# Altium footprint library lib_ti.PcbLib: 37 footprints (part 1 of 3)
Each footprint in its own frame and in the unit in brackets; x right, y up, seen from the top. Pads: shape width x height; smd on the part's side, far side on the other; paste and mask are expansions set on the pad; w line width, h text height; cw(c..) or ccw(c..) is an arc to the next point about the centre after c.
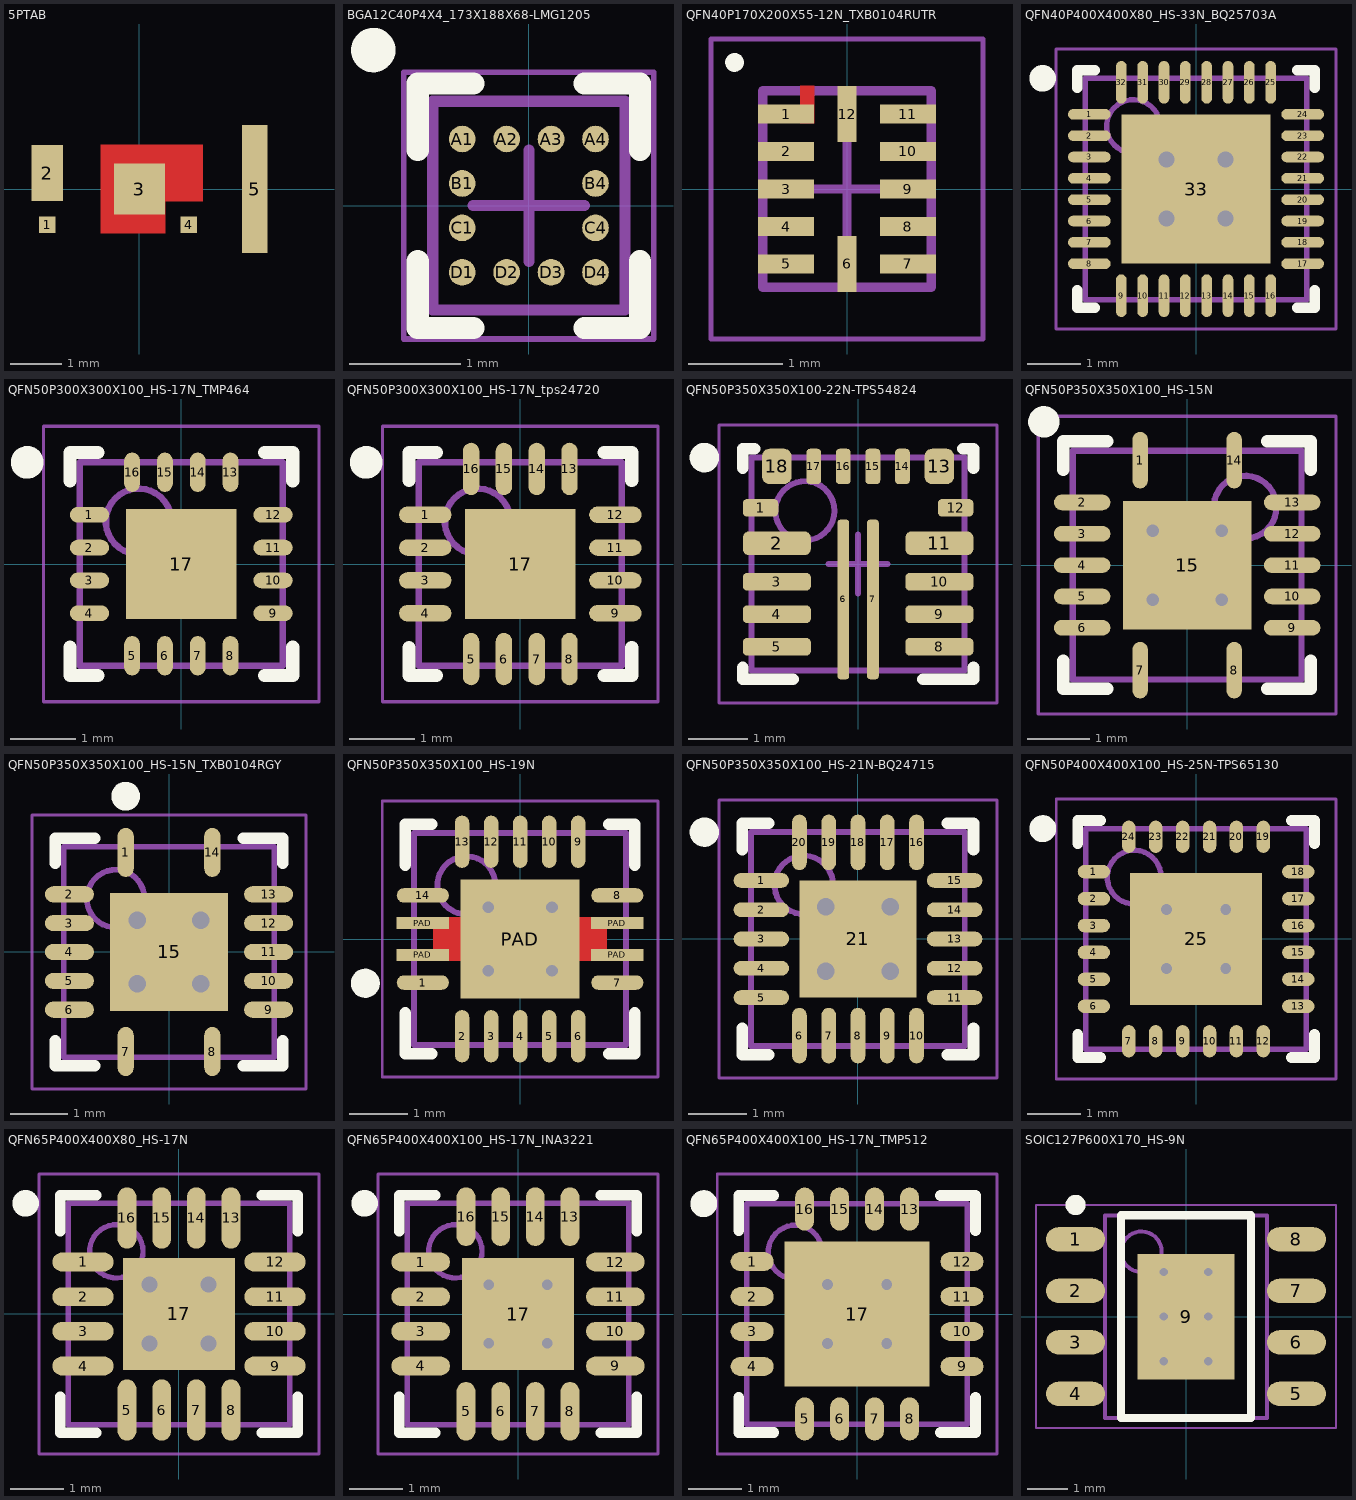
[diagram p0: the footprints below, top view; thin cyan lines are the x and y axes]

## 5PTAB [mm]
pads (5):
  rect 0.32x0.32 smd: 1(-1.8,-0.698) 4(0.96,-0.698)
  rect 0.616x1.096 smd: 2(-1.8,0.31)
  rect 1x1 smd: 3(0,0)
  rect 0.5x2.5 smd: 5(2.25,0)
Top Layer:
  region: -0.758,0.858 -0.758,-0.858 0.5,-0.858 0.5,-0.238 1.238,-0.238 1.238,0.858
3D body "Part1.STEP": height 0.48, standoff 0, extent -2.5,-1.25 2.5,1.25

## BGA12C40P4X4_173X188X68-LMG1205 [mm] "BGA, 12-Leads, Body 1,73x1,88mmx0,68mm, Pitch 0,40mm"
height 0.68
pads (12):
  round 0.24 smd: A1(-0.6,0.6) A2(-0.2,0.6) A3(0.2,0.6) A4(0.6,0.6) B1(-0.6,0.2) B4(0.6,0.2) C1(-0.6,-0.2) C4(0.6,-0.2) D1(-0.6,-0.6) D2(-0.2,-0.6) D3(0.2,-0.6) D4(0.6,-0.6)
Top Overlay:
  circle w0.2: c-1.4,1.4 r0.1
  lines w0.2: -1,-0.5 -1,-1.1 -0.5,-1.1 ; -1,0.5 -1,1.1 -0.5,1.1 ; 0.5,-1.1 1,-1.1 1,-0.5 ; 0.5,1.1 1,1.1 1,0.5
Mechanical 13:
  lines w0.1: -0.865,-0.94 0.865,-0.94 0.865,0.94 -0.865,0.94 -0.865,-0.94
Mechanical 15:
  lines w0.05: -1.125,-1.2 1.125,-1.2 1.125,1.2 -1.125,1.2 -1.125,-1.2
  lines w0.1: -0.5,0 0.5,0 ; 0,-0.5 0,0.5
3D body "BGA12C40P4X4_173X188X68.step": height 0.65, standoff -0.03, extent -0.865,-0.94 0.865,0.94

## QFN40P170X200X55-12N_TXB0104RUTR [mm] "QFN, 12-Leads, Body 1.70x2.00mm, Pitch 0.40mm, IPC Medium Density"
height 0.55
pads (12):
  rect 0.6x0.2 smd: 1(-0.65,0.8) 2(-0.65,0.4) 3(-0.65,0) 4(-0.65,-0.4) 5(-0.65,-0.8) 7(0.65,-0.8) 8(0.65,-0.4) 9(0.65,0) 10(0.65,0.4) 11(0.65,0.8)
  rect 0.2x0.6 smd: 6(0,-0.8) 12(0,0.8)
Top Layer:
  region: -0.35,0.7 -0.35,1.1 -0.5,1.1 -0.5,0.7
Top Overlay:
  circle w0.1: c-1.2,1.35 r0.05
Mechanical 13:
  lines w0.1: -0.9,-1.05 -0.9,1.05 0.9,1.05 0.9,-1.05 -0.9,-1.05
Mechanical 15:
  lines w0.05: -1.45,-1.6 -1.45,1.6 1.45,1.6 1.45,-1.6 -1.45,-1.6
  lines w0.1: -0.5,0 0.5,0 ; 0,-0.5 0,0.5
3D body "QFN40P170X200X55-12N_TXB0104RUTR.step": height 0.55, standoff 0, extent -0.901,-1.051 0.901,1.051

## QFN40P400X400X80_HS-33N_BQ25703A [mm] "QFN, 32-Leads, Body 4.00x4.00mm, Pitch 0.40mm, Thermal Pad 2.80x2.80mm, IPC Medium Density"
height 0.8
pads (33):
  oval 0.8x0.2 smd: 1(-2,1.4) 2(-2,1) 3(-2,0.6) 4(-2,0.2) 5(-2,-0.2) 6(-2,-0.6) 7(-2,-1) 8(-2,-1.4) 17(2,-1.4) 18(2,-1) 19(2,-0.6) 20(2,-0.2) 21(2,0.2) 22(2,0.6) 23(2,1) 24(2,1.4)
  oval 0.2x0.8 smd: 9(-1.4,-2) 10(-1,-2) 11(-0.6,-2) 12(-0.2,-2) 13(0.2,-2) 14(0.6,-2) 15(1,-2) 16(1.4,-2) 25(1.4,2) 26(1,2) 27(0.6,2) 28(0.2,2) 29(-0.2,2) 30(-0.6,2) 31(-1,2) 32(-1.4,2)
  rect 2.8x2.8 smd: 33(0,0)
via 0.55,-0.55 diameter 0.7 hole 0.3
via -0.55,-0.55 diameter 0.7 hole 0.3
via 0.55,0.55 diameter 0.7 hole 0.3
via -0.55,0.55 diameter 0.7 hole 0.3
Top Overlay:
  circle w0.25: c-2.875,2.075 r0.125
  lines w0.2: -2.225,-1.9 -2.225,-2.225 -1.9,-2.225 ; -2.225,1.9 -2.225,2.225 -1.9,2.225 ; 1.9,-2.225 2.225,-2.225 2.225,-1.9 ; 1.9,2.225 2.225,2.225 2.225,1.9
Mechanical 13:
  circle w0.1: c-1.175,1.175 r0.5
  lines w0.1: -2.075,-2.075 2.075,-2.075 2.075,2.075 -2.075,2.075 -2.075,-2.075
Mechanical 15:
  lines w0.05: -2.625,-2.625 2.625,-2.625 2.625,2.625 -2.625,2.625 -2.625,-2.625
  lines w0.1: -0.5,0 0.5,0 ; 0,-0.5 0,0.5
3D body "QFN40P400X400X80_HS-33N_BQ25703A.step": height 0.8, standoff 0, extent -2.076,-2.076 2.076,2.076

## QFN50P300X300X100_HS-17N_TMP464 [mm] "QFN, 16-Leads, Body 3.00x3.00mm, Pitch 0.50mm, Thermal Pad 1.68x1.68mm, IPC Medium Density"
height 1
pads (17):
  oval 0.6x0.24 smd: 1(-1.4,0.75) 2(-1.4,0.25) 3(-1.4,-0.25) 4(-1.4,-0.75) 9(1.4,-0.75) 10(1.4,-0.25) 11(1.4,0.25) 12(1.4,0.75)
  oval 0.24x0.6 smd: 5(-0.75,-1.4) 6(-0.25,-1.4) 7(0.25,-1.4) 8(0.75,-1.4) 13(0.75,1.4) 14(0.25,1.4) 15(-0.25,1.4) 16(-0.75,1.4)
  rect 1.68x1.68 smd: 17(0,0)
Top Overlay:
  circle w0.25: c-2.35,1.55 r0.125
  lines w0.2: -1.7,-1.27 -1.7,-1.7 -1.27,-1.7 ; -1.7,1.27 -1.7,1.7 -1.27,1.7 ; 1.27,-1.7 1.7,-1.7 1.7,-1.27 ; 1.27,1.7 1.7,1.7 1.7,1.27
Mechanical 13:
  circle w0.1: c-0.65,0.65 r0.5
  lines w0.1: -1.55,-1.55 1.55,-1.55 1.55,1.55 -1.55,1.55 -1.55,-1.55
Mechanical 15:
  lines w0.05: -2.1,-2.1 2.1,-2.1 2.1,2.1 -2.1,2.1 -2.1,-2.1
  lines w0.1: -0.5,0 0.5,0 ; 0,-0.5 0,0.5
3D body "QFN50P300X300X100_HS-17N_TMP464.step": height 1, standoff 0, extent -1.56,-1.56 1.56,1.56

## QFN50P300X300X100_HS-17N_tps24720 [mm] "QFN, 16-Leads, Body 3.00x3.00mm, Pitch 0.50mm, Thermal Pad 1.68x1.68mm, IPC Medium Density"
height 1
pads (17):
  oval 0.8x0.25 smd: 1(-1.45,0.75) 2(-1.45,0.25) 3(-1.45,-0.25) 4(-1.45,-0.75) 9(1.45,-0.75) 10(1.45,-0.25) 11(1.45,0.25) 12(1.45,0.75)
  oval 0.25x0.8 smd: 5(-0.75,-1.45) 6(-0.25,-1.45) 7(0.25,-1.45) 8(0.75,-1.45) 13(0.75,1.45) 14(0.25,1.45) 15(-0.25,1.45) 16(-0.75,1.45)
  rect 1.68x1.68 smd: 17(0,0)
Top Overlay:
  circle w0.25: c-2.35,1.55 r0.125
  lines w0.2: -1.7,-1.275 -1.7,-1.7 -1.275,-1.7 ; -1.7,1.275 -1.7,1.7 -1.275,1.7 ; 1.275,-1.7 1.7,-1.7 1.7,-1.275 ; 1.275,1.7 1.7,1.7 1.7,1.275
Mechanical 13:
  circle w0.1: c-0.65,0.65 r0.5
  lines w0.1: -1.55,-1.55 1.55,-1.55 1.55,1.55 -1.55,1.55 -1.55,-1.55
Mechanical 15:
  lines w0.05: -2.1,-2.1 2.1,-2.1 2.1,2.1 -2.1,2.1 -2.1,-2.1
  lines w0.1: -0.5,0 0.5,0 ; 0,-0.5 0,0.5
3D body "QFN50P300X300X100_HS-17N.step": height 1, standoff 0, extent -1.6,-1.6 1.6,1.6

## QFN50P350X350X100-22N-TPS54824 [mm] "QFN, 22-Leads, Body 3.50x3.50mm, Pitch 0.50mm/0.55mm, IPC Medium Density"
height 1
pads (18):
  rrect50% 0.6x0.3 smd: 1(-1.65,0.95) 12(1.65,0.95)
  rrect50% 1.15x0.4 smd: 2(-1.375,0.35) 11(1.375,0.35)
  rrect50% 1.15x0.3 smd: 3(-1.375,-0.3) 4(-1.375,-0.85) 5(-1.375,-1.4) 8(1.375,-1.4) 9(1.375,-0.85) 10(1.375,-0.3)
  rrect50% 0.2x2.7 smd: 6(-0.25,-0.6) 7(0.25,-0.6)
  rrect50% 0.5x0.6 smd: 13(1.375,1.65) 18(-1.375,1.65)
  rrect50% 0.25x0.6 smd: 14(0.75,1.65) 15(0.25,1.65) 16(-0.25,1.65) 17(-0.75,1.65)
Top Overlay:
  circle w0.25: c-2.6,1.8 r0.125
  lines w0.2: -1.95,-1.75 -1.95,-1.95 -1.1,-1.95 ; -1.95,1.625 -1.95,1.95 -1.75,1.95 ; 1.1,-1.95 1.95,-1.95 1.95,-1.75 ; 1.775,1.95 1.95,1.95 1.95,1.625
Mechanical 13:
  circle w0.1: c-0.9,0.9 r0.5
  lines w0.1: -1.8,-1.8 1.8,-1.8 1.8,1.8 -1.8,1.8 -1.8,-1.8
Mechanical 15:
  lines w0.05: -2.35,-2.35 2.35,-2.35 2.35,2.35 -2.35,2.35 -2.35,-2.35
  lines w0.1: -0.5,0 0.5,0 ; 0,-0.5 0,0.5
3D body "QFN50P350X350X100-22N.step": height 1, standoff 0, extent -1.801,-1.801 1.801,1.801

## QFN50P350X350X100_HS-15N [mm] "QFN, 14-Leads, Body 3.50x3.50mm, Pitch 0.50mm/1.50mm, Thermal Pad 2.05x2.05mm, IPC Medium Density"
height 1
pads (15):
  oval 0.25x0.9 smd: 1(-0.75,1.675) 7(-0.75,-1.675) 8(0.75,-1.675) 14(0.75,1.675)
  oval 0.9x0.25 smd: 2(-1.675,1) 3(-1.675,0.5) 4(-1.675,0) 5(-1.675,-0.5) 6(-1.675,-1) 9(1.675,-1) 10(1.675,-0.5) 11(1.675,0) 12(1.675,0.5) 13(1.675,1)
  rect 2.05x2.05 smd: 15(0,0)
via 0.55,0.55 diameter 0.5 hole 0.2
via 0.55,-0.55 diameter 0.5 hole 0.2
via -0.55,0.55 diameter 0.5 hole 0.2
via -0.55,-0.55 diameter 0.5 hole 0.2
Top Overlay:
  circle w0.25: c-2.286,2.286 r0.125
  lines w0.2: -1.975,-1.525 -1.975,-1.975 -1.275,-1.975 ; -1.975,1.525 -1.975,1.975 -1.275,1.975 ; 1.275,-1.975 1.975,-1.975 1.975,-1.525 ; 1.275,1.975 1.975,1.975 1.975,1.525
Mechanical 13:
  circle w0.1: c0.925,0.925 r0.5
  lines w0.1: -1.825,-1.825 1.825,-1.825 1.825,1.825 -1.825,1.825 -1.825,-1.825
Mechanical 15:
  lines w0.05: -2.375,-2.375 2.375,-2.375 2.375,2.375 -2.375,2.375 -2.375,-2.375
  lines w0.1: -0.5,0 0.5,0 ; 0,-0.5 0,0.5
3D body "QFN50P350X350X100_HS-15N.step": height 1, standoff 0, extent -1.905,-1.905 1.905,1.905

## QFN50P350X350X100_HS-15N_TXB0104RGY [mm] "QFN, 14-Leads, Body 3.50x3.50mm, Pitch 1.50mm/0.50mm, Thermal Pad 2.05x2.05mm, IPC Medium Density"
height 1
pads (15):
  oval 0.28x0.85 smd: 1(-0.75,1.725) 7(-0.75,-1.725) 8(0.75,-1.725) 14(0.75,1.725)
  oval 0.85x0.28 smd: 2(-1.725,1) 3(-1.725,0.5) 4(-1.725,0) 5(-1.725,-0.5) 6(-1.725,-1) 9(1.725,-1) 10(1.725,-0.5) 11(1.725,0) 12(1.725,0.5) 13(1.725,1)
  rect 2.05x2.05 smd: 15(0,0)
via -0.55,0.55 diameter 0.5 hole 0.3
via 0.55,0.55 diameter 0.5 hole 0.3
via -0.55,-0.55 diameter 0.5 hole 0.3
via 0.55,-0.55 diameter 0.5 hole 0.3
Top Overlay:
  circle w0.25: c-0.75,2.7 r0.125
  lines w0.2: -1.975,-1.54 -1.975,-1.975 -1.29,-1.975 ; -1.975,1.54 -1.975,1.975 -1.29,1.975 ; 1.29,-1.975 1.975,-1.975 1.975,-1.54 ; 1.29,1.975 1.975,1.975 1.975,1.54
Mechanical 13:
  circle w0.1: c-0.925,0.925 r0.5
  lines w0.1: -1.825,-1.825 -1.825,1.825 1.825,1.825 1.825,-1.825 -1.825,-1.825
Mechanical 15:
  lines w0.05: -2.375,-2.375 -2.375,2.375 2.375,2.375 2.375,-2.375 -2.375,-2.375
  lines w0.1: -0.5,0 0.5,0 ; 0,-0.5 0,0.5
3D body "QFN50P350X350X100_HS-15N_TXB0104RGY.step": height 1, standoff 0, extent -1.915,-1.915 1.915,1.915

## QFN50P350X350X100_HS-19N [mm] "QFN, 18-Leads, Body 3,50x3,50mm, Pitch 0,50mm, Thermal Pad 2,05x2,05mm, IPC Medium Density"
height 1
pads (19):
  oval 0.9x0.25 smd: 1(-1.675,-0.75) 7(1.675,-0.75) 8(1.675,0.75) 14(-1.675,0.75)
  oval 0.25x0.9 smd: 2(-1,-1.675) 3(-0.5,-1.675) 4(0,-1.675) 5(0.5,-1.675) 6(1,-1.675) 9(1,1.675) 10(0.5,1.675) 11(0,1.675) 12(-0.5,1.675) 13(-1,1.675)
  rect 0.9x0.2 smd: PAD(-1.675,-0.275) PAD(-1.675,0.275) PAD(1.675,-0.275) PAD(1.675,0.275)
  rect 2.05x2.05 smd: PAD(0,0)
via 0.55,-0.55 diameter 0.5 hole 0.2
via -0.55,-0.55 diameter 0.5 hole 0.2
via 0.55,0.55 diameter 0.5 hole 0.2
via -0.55,0.55 diameter 0.5 hole 0.2
Top Layer:
  rectangle: -1.5,-0.375 1.5,0.375
Top Overlay:
  circle w0.25: c-2.667,-0.762 r0.125
  lines w0.2: -1.975,-1.275 -1.975,-1.975 -1.525,-1.975 ; -1.975,1.275 -1.975,1.975 -1.525,1.975 ; 1.525,-1.975 1.975,-1.975 1.975,-1.275 ; 1.525,1.975 1.975,1.975 1.975,1.275
Mechanical 13:
  circle w0.1: c-0.925,0.925 r0.5
  lines w0.1: -1.825,-1.825 1.825,-1.825 1.825,1.825 -1.825,1.825 -1.825,-1.825
Mechanical 15:
  lines w0.05: -2.375,-2.375 2.375,-2.375 2.375,2.375 -2.375,2.375 -2.375,-2.375
  lines w0.1: -0.5,0 0.5,0 ; 0,-0.5 0,0.5
3D body "RHL0014A.stp": height 1, standoff 0, extent -1.75,-1.75 1.75,1.75

## QFN50P350X350X100_HS-21N-BQ24715 [mm] "QFN, 20-Leads, Body 3.50x3.50mm, Pitch 0.50mm, Thermal Pad 2.00x2.00mm, IPC Medium Density"
height 1
pads (21):
  oval 0.95x0.25 smd: 1(-1.65,1) 2(-1.65,0.5) 3(-1.65,0) 4(-1.65,-0.5) 5(-1.65,-1) 11(1.65,-1) 12(1.65,-0.5) 13(1.65,0) 14(1.65,0.5) 15(1.65,1)
  oval 0.25x0.95 smd: 6(-1,-1.65) 7(-0.5,-1.65) 8(0,-1.65) 9(0.5,-1.65) 10(1,-1.65) 16(1,1.65) 17(0.5,1.65) 18(0,1.65) 19(-0.5,1.65) 20(-1,1.65)
  rect 2x2 smd: 21(0,0)
via -0.55,0.55 diameter 0.6 hole 0.3
via 0.55,0.55 diameter 0.6 hole 0.3
via -0.55,-0.55 diameter 0.6 hole 0.3
via 0.55,-0.55 diameter 0.6 hole 0.3
Top Overlay:
  circle w0.25: c-2.625,1.825 r0.125
  lines w0.2: -1.975,-1.525 -1.975,-1.975 -1.525,-1.975 ; -1.975,1.525 -1.975,1.975 -1.525,1.975 ; 1.525,-1.975 1.975,-1.975 1.975,-1.525 ; 1.525,1.975 1.975,1.975 1.975,1.525
Mechanical 13:
  circle w0.1: c-0.925,0.925 r0.5
  lines w0.1: -1.825,-1.825 -1.825,1.825 1.825,1.825 1.825,-1.825 -1.825,-1.825
Mechanical 15:
  lines w0.05: -2.375,-2.375 -2.375,2.375 2.375,2.375 2.375,-2.375 -2.375,-2.375
  lines w0.1: -0.5,0 0.5,0 ; 0,-0.5 0,0.5
3D body "QFN50P350X350X100_HS-21N-BQ24715.step": height 1, standoff 0, extent -1.826,-1.826 1.826,1.826

## QFN50P400X400X100_HS-25N-TPS65130 [mm] "QFN, 24-Leads, Body 4,00x4,00mm, Pitch 0,50mm, Thermal Pad 2,45x2,45mm, IPC Medium Density"
height 1
pads (25):
  oval 0.6x0.25 smd: 1(-1.9,1.25) 2(-1.9,0.75) 3(-1.9,0.25) 4(-1.9,-0.25) 5(-1.9,-0.75) 6(-1.9,-1.25) 13(1.9,-1.25) 14(1.9,-0.75) 15(1.9,-0.25) 16(1.9,0.25) 17(1.9,0.75) 18(1.9,1.25)
  oval 0.25x0.6 smd: 7(-1.25,-1.9) 8(-0.75,-1.9) 9(-0.25,-1.9) 10(0.25,-1.9) 11(0.75,-1.9) 12(1.25,-1.9) 19(1.25,1.9) 20(0.75,1.9) 21(0.25,1.9) 22(-0.25,1.9) 23(-0.75,1.9) 24(-1.25,1.9)
  rect 2.45x2.45 smd: 25(0,0)
via -0.55,0.55 diameter 0.5 hole 0.2
via 0.55,0.55 diameter 0.5 hole 0.2
via -0.55,-0.55 diameter 0.5 hole 0.2
via 0.55,-0.55 diameter 0.5 hole 0.2
Top Overlay:
  circle w0.25: c-2.85,2.05 r0.125
  lines w0.2: -2.2,-1.775 -2.2,-2.2 -1.775,-2.2 ; -2.2,1.775 -2.2,2.2 -1.775,2.2 ; 1.775,-2.2 2.2,-2.2 2.2,-1.775 ; 1.775,2.2 2.2,2.2 2.2,1.775
Mechanical 13:
  circle w0.1: c-1.15,1.15 r0.5
  lines w0.1: -2.05,-2.05 -2.05,2.05 2.05,2.05 2.05,-2.05 -2.05,-2.05
Mechanical 15:
  lines w0.05: -2.6,-2.6 -2.6,2.6 2.6,2.6 2.6,-2.6 -2.6,-2.6
  lines w0.1: -0.5,0 0.5,0 ; 0,-0.5 0,0.5
3D body "QFN50P400X400X100_HS-25N-TPS65130.step": height 1, standoff 0, extent -2.051,-2.051 2.051,2.051

## QFN65P400X400X80_HS-17N [mm] "QFN, 16-Leads, Body 4,00x4,00mm, Pitch 0,65mm, Thermal Pad 2,10x2,10mm, IPC Medium Density"
height 0.8
pads (17):
  oval 1.15x0.35 smd: 1(-1.8,0.975) 2(-1.8,0.325) 3(-1.8,-0.325) 4(-1.8,-0.975) 9(1.8,-0.975) 10(1.8,-0.325) 11(1.8,0.325) 12(1.8,0.975)
  oval 0.35x1.15 smd: 5(-0.975,-1.8) 6(-0.325,-1.8) 7(0.325,-1.8) 8(0.975,-1.8) 13(0.975,1.8) 14(0.325,1.8) 15(-0.325,1.8) 16(-0.975,1.8)
  rect 2.1x2.1 smd: 17(0,0)
via 0.55,-0.55 diameter 0.6 hole 0.3
via -0.55,-0.55 diameter 0.6 hole 0.3
via 0.55,0.55 diameter 0.6 hole 0.3
via -0.55,0.55 diameter 0.6 hole 0.3
Top Overlay:
  circle w0.25: c-2.875,2.075 r0.125
  lines w0.2: -2.225,-1.55 -2.225,-2.225 -1.55,-2.225 ; -2.225,1.55 -2.225,2.225 -1.55,2.225 ; 1.55,-2.225 2.225,-2.225 2.225,-1.55 ; 1.55,2.225 2.225,2.225 2.225,1.55
Mechanical 13:
  circle w0.1: c-1.175,1.175 r0.5
  lines w0.1: -2.075,-2.075 2.075,-2.075 2.075,2.075 -2.075,2.075 -2.075,-2.075
Mechanical 15:
  lines w0.05: -2.625,-2.625 2.625,-2.625 2.625,2.625 -2.625,2.625 -2.625,-2.625
  lines w0.1: -0.5,0 0.5,0 ; 0,-0.5 0,0.5
3D body "QFN65P400X400X80_HS-17N.step": height 0.8, standoff 0, extent -2.076,-2.076 2.076,2.076

## QFN65P400X400X100_HS-17N_INA3221 [mm] "QFN, 16-Leads, Body 4.00x4.00mm, Pitch 0.65mm, Thermal Pad 2.10x2.10mm, IPC Medium Density"
height 1
pads (17):
  oval 1.1x0.35 smd: 1(-1.825,0.975) 2(-1.825,0.325) 3(-1.825,-0.325) 4(-1.825,-0.975) 9(1.825,-0.975) 10(1.825,-0.325) 11(1.825,0.325) 12(1.825,0.975)
  oval 0.35x1.1 smd: 5(-0.975,-1.825) 6(-0.325,-1.825) 7(0.325,-1.825) 8(0.975,-1.825) 13(0.975,1.825) 14(0.325,1.825) 15(-0.325,1.825) 16(-0.975,1.825)
  rect 2.1x2.1 smd: 17(0,0)
via 0.55,-0.55 diameter 0.5 hole 0.2
via -0.55,-0.55 diameter 0.5 hole 0.2
via 0.55,0.55 diameter 0.5 hole 0.2
via -0.55,0.55 diameter 0.5 hole 0.2
Top Overlay:
  circle w0.25: c-2.875,2.075 r0.125
  lines w0.2: -2.225,-1.55 -2.225,-2.225 -1.55,-2.225 ; -2.225,1.55 -2.225,2.225 -1.55,2.225 ; 1.55,-2.225 2.225,-2.225 2.225,-1.55 ; 1.55,2.225 2.225,2.225 2.225,1.55
Mechanical 13:
  circle w0.1: c-1.175,1.175 r0.5
  lines w0.1: -2.075,-2.075 2.075,-2.075 2.075,2.075 -2.075,2.075 -2.075,-2.075
Mechanical 15:
  lines w0.05: -2.625,-2.625 2.625,-2.625 2.625,2.625 -2.625,2.625 -2.625,-2.625
  lines w0.1: -0.5,0 0.5,0 ; 0,-0.5 0,0.5
3D body "QFN65P400X400X100_HS-17N_INA3221.step": height 1, standoff 0, extent -2.125,-2.125 2.125,2.125

## QFN65P400X400X100_HS-17N_TMP512 [mm] "QFN, 16-Leads, Body 4.00x4.00mm, Pitch 0.65mm, Thermal Pad 2.70x2.70mm, IPC Medium Density"
height 1
pads (17):
  oval 0.8x0.35 smd: 1(-1.95,0.975) 2(-1.95,0.325) 3(-1.95,-0.325) 4(-1.95,-0.975) 9(1.95,-0.975) 10(1.95,-0.325) 11(1.95,0.325) 12(1.95,0.975)
  oval 0.35x0.8 smd: 5(-0.975,-1.95) 6(-0.325,-1.95) 7(0.325,-1.95) 8(0.975,-1.95) 13(0.975,1.95) 14(0.325,1.95) 15(-0.325,1.95) 16(-0.975,1.95)
  rect 2.7x2.7 smd: 17(0,0)
via 0.55,-0.55 diameter 0.5 hole 0.2
via -0.55,-0.55 diameter 0.5 hole 0.2
via 0.55,0.55 diameter 0.5 hole 0.2
via -0.55,0.55 diameter 0.5 hole 0.2
Top Overlay:
  circle w0.25: c-2.85,2.05 r0.125
  lines w0.2: -2.2,-1.55 -2.2,-2.2 -1.55,-2.2 ; -2.2,1.55 -2.2,2.2 -1.55,2.2 ; 1.55,-2.2 2.2,-2.2 2.2,-1.55 ; 1.55,2.2 2.2,2.2 2.2,1.55
Mechanical 13:
  circle w0.1: c-1.15,1.15 r0.5
  lines w0.1: -2.05,-2.05 2.05,-2.05 2.05,2.05 -2.05,2.05 -2.05,-2.05
Mechanical 15:
  lines w0.05: -2.6,-2.6 2.6,-2.6 2.6,2.6 -2.6,2.6 -2.6,-2.6
  lines w0.1: -0.5,0 0.5,0 ; 0,-0.5 0,0.5
3D body "QFN65P400X400X100_HS-17N_TMP512.step": height 1, standoff 0, extent -2.051,-2.051 2.051,2.051

## SOIC127P600X170_HS-9N [mm] "SOIC, 8-Leads, Body 4,90x3,90mm, Pitch 1,27mm, Thermal Pad 3,10x2,40mm, IPC Medium Density"
height 1.7
pads (9):
  oval 1.45x0.6 smd: 1(-2.725,1.905) 2(-2.725,0.635) 3(-2.725,-0.635) 4(-2.725,-1.905) 5(2.725,-1.905) 6(2.725,-0.635) 7(2.725,0.635) 8(2.725,1.905)
  rect 2.4x3.1 smd: 9(0,0)
via 0.55,-1.1 diameter 0.5 hole 0.2
via -0.55,-1.1 diameter 0.5 hole 0.2
via 0.55,0 diameter 0.5 hole 0.2
via -0.55,0 diameter 0.5 hole 0.2
via 0.55,1.1 diameter 0.5 hole 0.2
via -0.55,1.1 diameter 0.5 hole 0.2
Top Overlay:
  circle w0.25: c-2.725,2.755 r0.125
  lines w0.2: -1.6,-2.5 1.6,-2.5 1.6,2.5 -1.6,2.5 -1.6,-2.5
Mechanical 13:
  circle w0.1: c-1.1,1.6 r0.5
  lines w0.1: -2,-2.5 2,-2.5 2,2.5 -2,2.5 -2,-2.5
Mechanical 15:
  lines w0.05: -3.7,-2.75 3.7,-2.75 3.7,2.75 -3.7,2.75 -3.7,-2.75
  lines w0.1: -0.5,0 0.5,0 ; 0,-0.5 0,0.5
3D body "SOIC127P600X170_HS-9N.step": height 1.7, standoff 0, extent -3,-2.5 3,2.5